# Altium schematic symbol library TPS54331DR.Schlib: 1 symbol
Pins are listed as number, name and electrical type; pins without a type are passive.

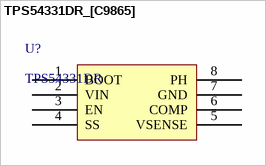
[diagram p0: symbol TPS54331DR_[C9865]]

## TPS54331DR_[C9865]
designator U?, comment TPS54331DR
DC-DC芯片
footprint SOIC-8_150mil
pins: 1 BOOT, 2 VIN, 3 EN, 4 SS, 5 VSENSE, 6 COMP, 7 GND, 8 PH